# Altium schematic symbol library MCP6024-E_ST.SchLib: 1 symbol
Pins are listed as number, name and electrical type; pins without a type are passive.

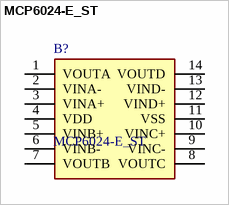
[diagram p0: symbol MCP6024-E_ST]

## MCP6024-E_ST
designator B?
OP Amp Quad GP R-R I/O 5.5V; Manufacturer_Name: Microchip; Manufacturer_Part_Number: MCP6024-E/ST; Geometry.Height: 1.2mm; Mouser Part Number: 579-MCP6024-E/ST; Mouser Price/Stock: https://www.mouser.co.uk/ProductDetail/Microchip-Technology/MCP6024-E-ST?qs=Lo1urCY4z7s5t%252Byy%252BI7phw%3D%3D; Datasheet Link: https://ww1.microchip.com/downloads/en/DeviceDoc/20001685E.pdf
footprint SOP65P640X120-14N
pins: 1 VOUTA, 2 VINA-, 3 VINA+, 4 VDD, 5 VINB+, 6 VINB-, 7 VOUTB, 8 VOUTC, 9 VINC-, 10 VINC+, 11 VSS, 12 VIND+, 13 VIND-, 14 VOUTD